# Altium schematic symbol library ET-318.Schlib: 1 symbol
Pins are listed as number, name and electrical type; pins without a type are passive.

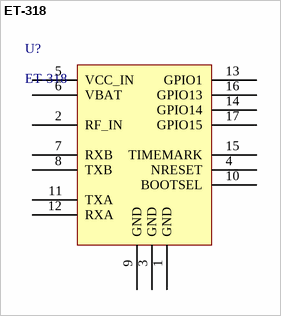
[diagram p0: symbol ET-318]

## ET-318
designator U?
pins: 1 GND, 2 RF_IN, 3 GND, 4 NRESET, 5 VCC_IN, 6 VBAT, 7 RXB, 8 TXB, 9 GND, 10 BOOTSEL, 11 TXA, 12 RXA, 13 GPIO1, 14 GPIO14, 15 TIMEMARK, 16 GPIO13, 17 GPIO15